# Altium footprint library StandardDevices.PcbLib: 59 footprints (part 4 of 4)
Each footprint in its own frame and in the unit in brackets; x right, y up, seen from the top. Pads: shape width x height; smd on the part's side, far side on the other; paste and mask are expansions set on the pad; w line width, h text height; cw(c..) or ccw(c..) is an arc to the next point about the centre after c.
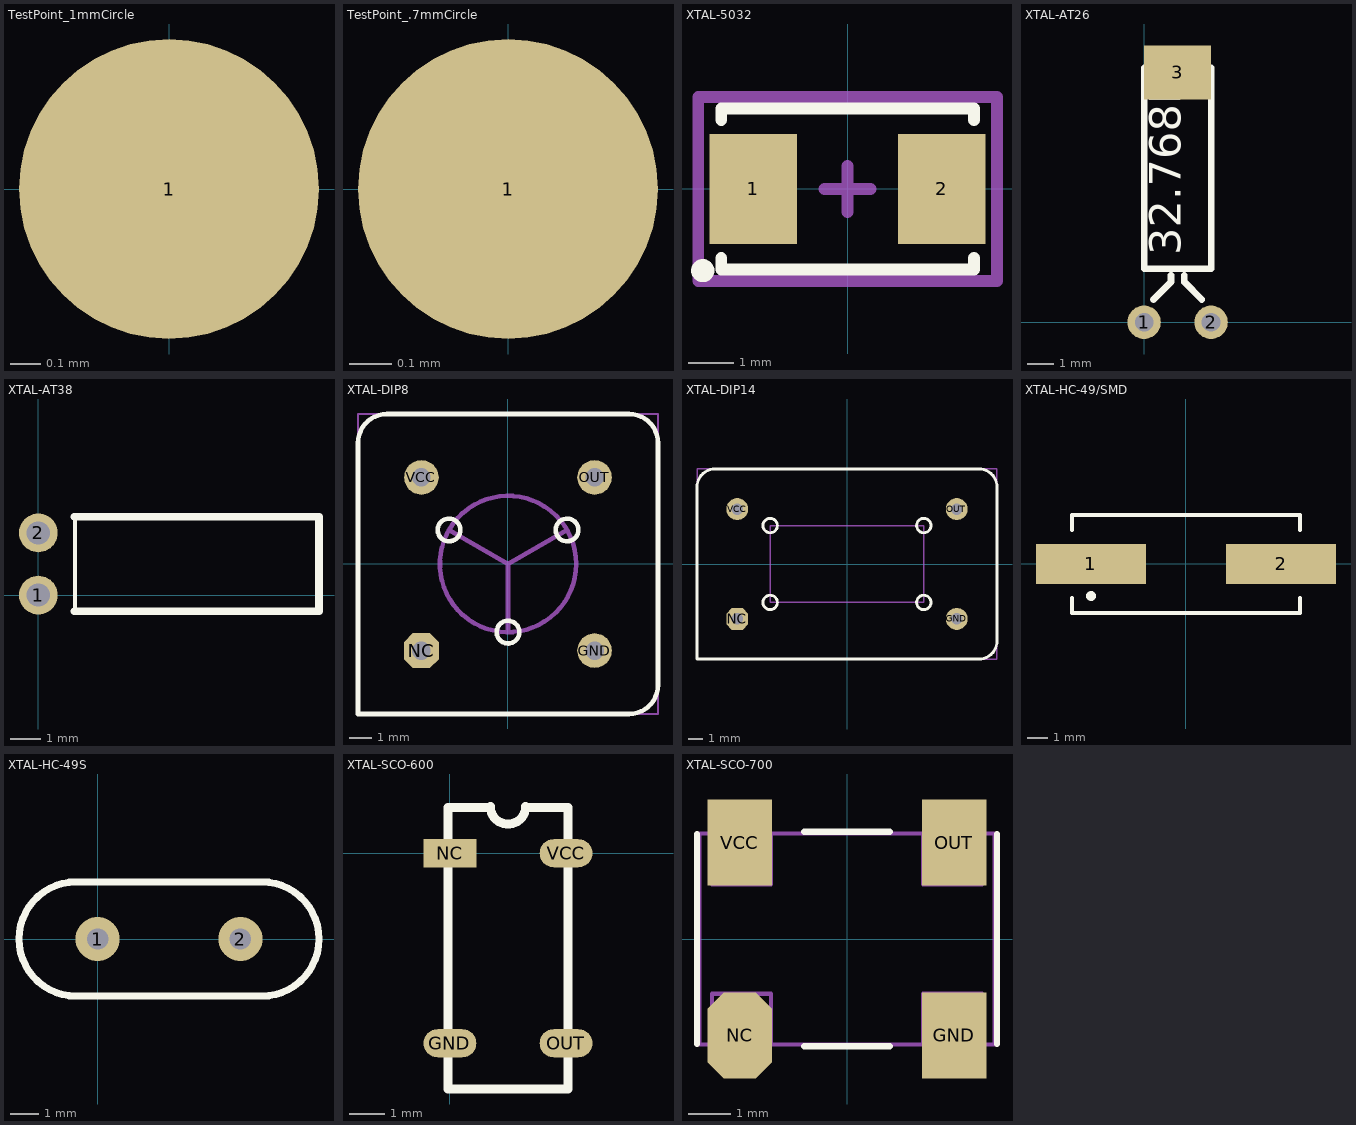
[diagram p3: the footprints below, top view; thin cyan lines are the x and y axes]

## TestPoint_1mmCircle [mm] "1mm circle test point"
pads (1):
  round 1 smd: 1(0,0)

## TestPoint_.7mmCircle [mm] "0.7mm circle test point"
pads (1):
  round 0.7 smd paste+0 mask+0.025: 1(0,0)

## XTAL-5032 [mm] "5mm*3.2mm Crystal"
height 1
pads (2):
  rect 1.9x2.4 smd: 1(-2.05,0) 2(2.05,0)
Top Overlay:
  circle w0.254: c-3.15,-1.775 r0.125
  lines w0.254: -2.75,-1.5 -2.75,-1.75 2.75,-1.75 2.75,-1.5 ; -2.75,1.5 -2.75,1.75 2.75,1.75 2.75,1.5
Mechanical 15:
  lines w0.254: -0.5,0 0.5,0 ; 0,-0.5 0,0.5 ; -3.25,-2 -3.25,2 3.25,2 3.25,-2 -3.25,-2
3D body: height 1, standoff 0, extent -2.5,-1.6 2.5,1.6

## XTAL-AT26 [mil]
pads (3):
  round 50 hole 28: 1(0,0) 2(100,0)
  rect 100x80 smd: 3(50,373)
Top Overlay:
  lines w10: 14,34 40,60 40,70 ; 60,70 60,60 86,34 ; 0,80 0,380 100,380 100,80 0,80
  text "32.768K" at 70,100 h80

## XTAL-AT38 [mil] "32768"
pads (2):
  round 50 hole 30: 1(0,0) 2(0,80.31)
Top Overlay:
  rectangle: 44.72,-20.87 50,101.18
  lines w10: 46.49,-20.87 362.2,-20.87 362.2,101.18 46.49,101.18

## XTAL-DIP8 [mil]
height 228
pads (4):
  round 60 hole 32: GND(150,-150) OUT(150,150) VCC(-150,150)
  oct 60x60 hole 32: NC(-150,-150)
Top Overlay:
  circle w8: c0,-118.11 r19.69
  circle w8: c102.29,59.05 r19.69
  circle w8: c-102.29,59.06 r19.69
  lines w8: -260,-260 -260,210 cw(c-210,210) -210,260 210,260 cw(c210,210) 260,210 260,-210 cw(c210,-210) 210,-260 -260,-260
Mechanical 1:
  circle w8: c0,0 r118.11
  lines w4: -260,-260 -260,260 260,260 260,-260 -260,-260
  lines w8: -102.29,59.06 0,0 ; 0,-118.11 0,0 ; 102.29,59.06 0,0

## XTAL-DIP14 [mil]
height 228
pads (4):
  round 60 hole 32: GND(300,-150) OUT(300,150) VCC(-300,150)
  oct 60x60 hole 32: NC(-300,-150)
Top Overlay:
  circle w8: c-210,-105 r19.69
  circle w8: c210,-105 r19.69
  circle w8: c210,105 r19.69
  circle w8: c-210,105 r19.69
  lines w8: -410,-260 -410,210 cw(c-360,210) -360,260 360,260 cw(c360,210) 410,210 410,-210 cw(c360,-210) 360,-260 -410,-260
Mechanical 1:
  lines w4: -410,-260 -410,260 410,260 410,-260 -410,-260 ; -210,-105 -210,105 210,105 210,-105 -210,-105

## XTAL-HC-49/SMD [mm] "Quartz Crystal, SM; Body 13.4 (inc. leads) x 4.9 mm (LxW max)"
height 4.3
pads (2):
  rect 5.5x2 smd: 1(-4.75,0) 2(4.75,0)
Top Overlay:
  circle w0.25: c-4.75,-1.6 r0.125
  lines w0.2: -5.7,-1.7 -5.7,-2.45 5.7,-2.45 5.7,-1.7 ; -5.7,1.7 -5.7,2.45 5.7,2.45 5.7,1.7

## XTAL-HC-49S [mil] "12MHZ"
pads (2):
  round 62 hole 30: 1(0,0) 2(200,0)
Top Overlay:
  lines w10: -30,-80 cw(c-30,0) -30,80 230,80 cw(c230,0) 230,-80 -30,-80

## XTAL-SCO-600 [mm]
pads (4):
  oval 1.5x0.8 smd: GND(0,-5.4) OUT(3.3,-5.4) VCC(3.3,0)
  rect 1.5x0.8 smd: NC(0,0)
Top Overlay:
  lines w0.254: -0.05,-5.8 -0.05,-6.7 3.35,-6.7 ; -0.05,-5.08 -0.05,-0.254 ; -0.05,0.425 -0.05,1.3 1.15,1.3 ; 1.15,1.325 ccw(c1.65,1.325) 2.15,1.325 ; 2.15,1.3 3.35,1.3 3.35,0.425 ; 3.34,-6.7 3.35,-6.7 ; 3.35,-5.8 3.35,-6.7 ; 3.35,-4.95 3.35,-0.375

## XTAL-SCO-700 [mil] "SMD, 5mm x 7mm"
height 78.74
pads (4):
  rect 60x80 smd: GND(100,-90) OUT(100,90) VCC(-100,90)
  oct 60x80 smd: NC(-100,-90)
Top Overlay:
  lines w6: -140,-98 -140,98 ; -40,-100 40,-100 ; -40,100 40,100 ; 140,-98 140,98
  text "." at -150,-125 h200
Mechanical 1:
  lines w3.94: -125.98,-98.43 -125.98,-51.18 -70.87,-51.18 -70.87,-98.43 ; -125.98,98.43 -125.98,51.18 -70.87,51.18 -70.87,98.43 ; 70.87,-98.43 70.87,-51.18 125.98,-51.18 125.98,-98.43 ; 70.87,98.43 70.87,51.18 125.98,51.18 125.98,98.43 ; -137.8,-98.43 -137.8,98.43 137.8,98.43 137.8,-98.43 -137.8,-98.43